# Altium footprint library 4229_PCB.PcbLib: 1 footprints
Each footprint in its own frame and in the unit in brackets; x right, y up, seen from the top. Pads: shape width x height; smd on the part's side, far side on the other; paste and mask are expansions set on the pad; w line width, h text height; cw(c..) or ccw(c..) is an arc to the next point about the centre after c.
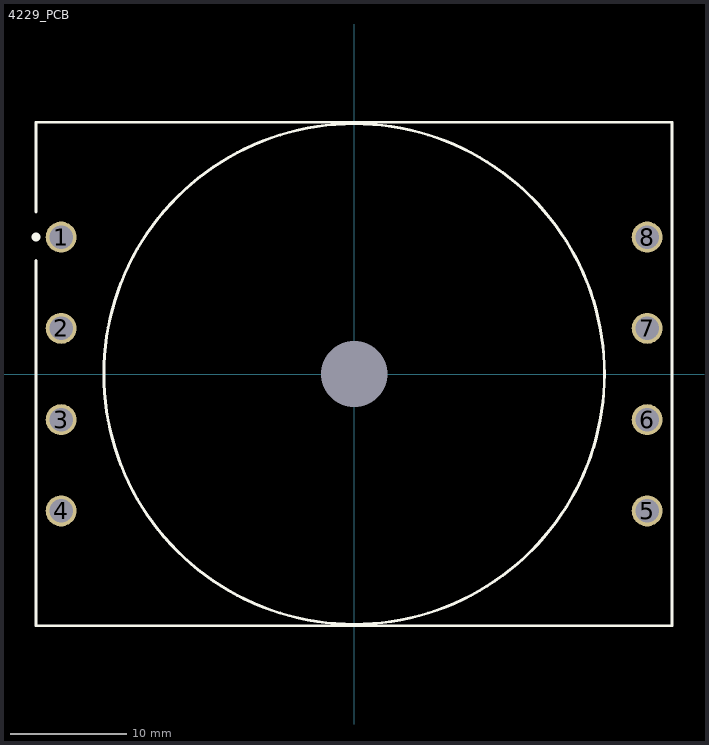
[diagram p0: the footprint, top view; thin cyan lines are the x and y axes]

## 4229_PCB [mil]
pads (9):
  round 105 hole 80: 1(-995,465) 2(-995,155) 3(-995,-155) 4(-995,-465) 5(995,-465) 6(995,-155) 7(995,155) 8(995,465)
  round 0 hole 225 unplated: MH(0,0)
Top Overlay:
  circle w10: c0,0 r850
  lines w10: -1080,385 -1080,-855 1080,-855 1080,855 -1080,855 -1080,550
  lines w30: -1081,465 -1080,465
3D body: height 1213.74, standoff -210.5, extent -1195,-834.64 1195,834.65